# Altium footprint library Loggerhead.PcbLib: 175 footprints (part 3 of 11)
Each footprint in its own frame and in the unit in brackets; x right, y up, seen from the top. Pads: shape width x height; smd on the part's side, far side on the other; paste and mask are expansions set on the pad; w line width, h text height; cw(c..) or ccw(c..) is an arc to the next point about the centre after c.
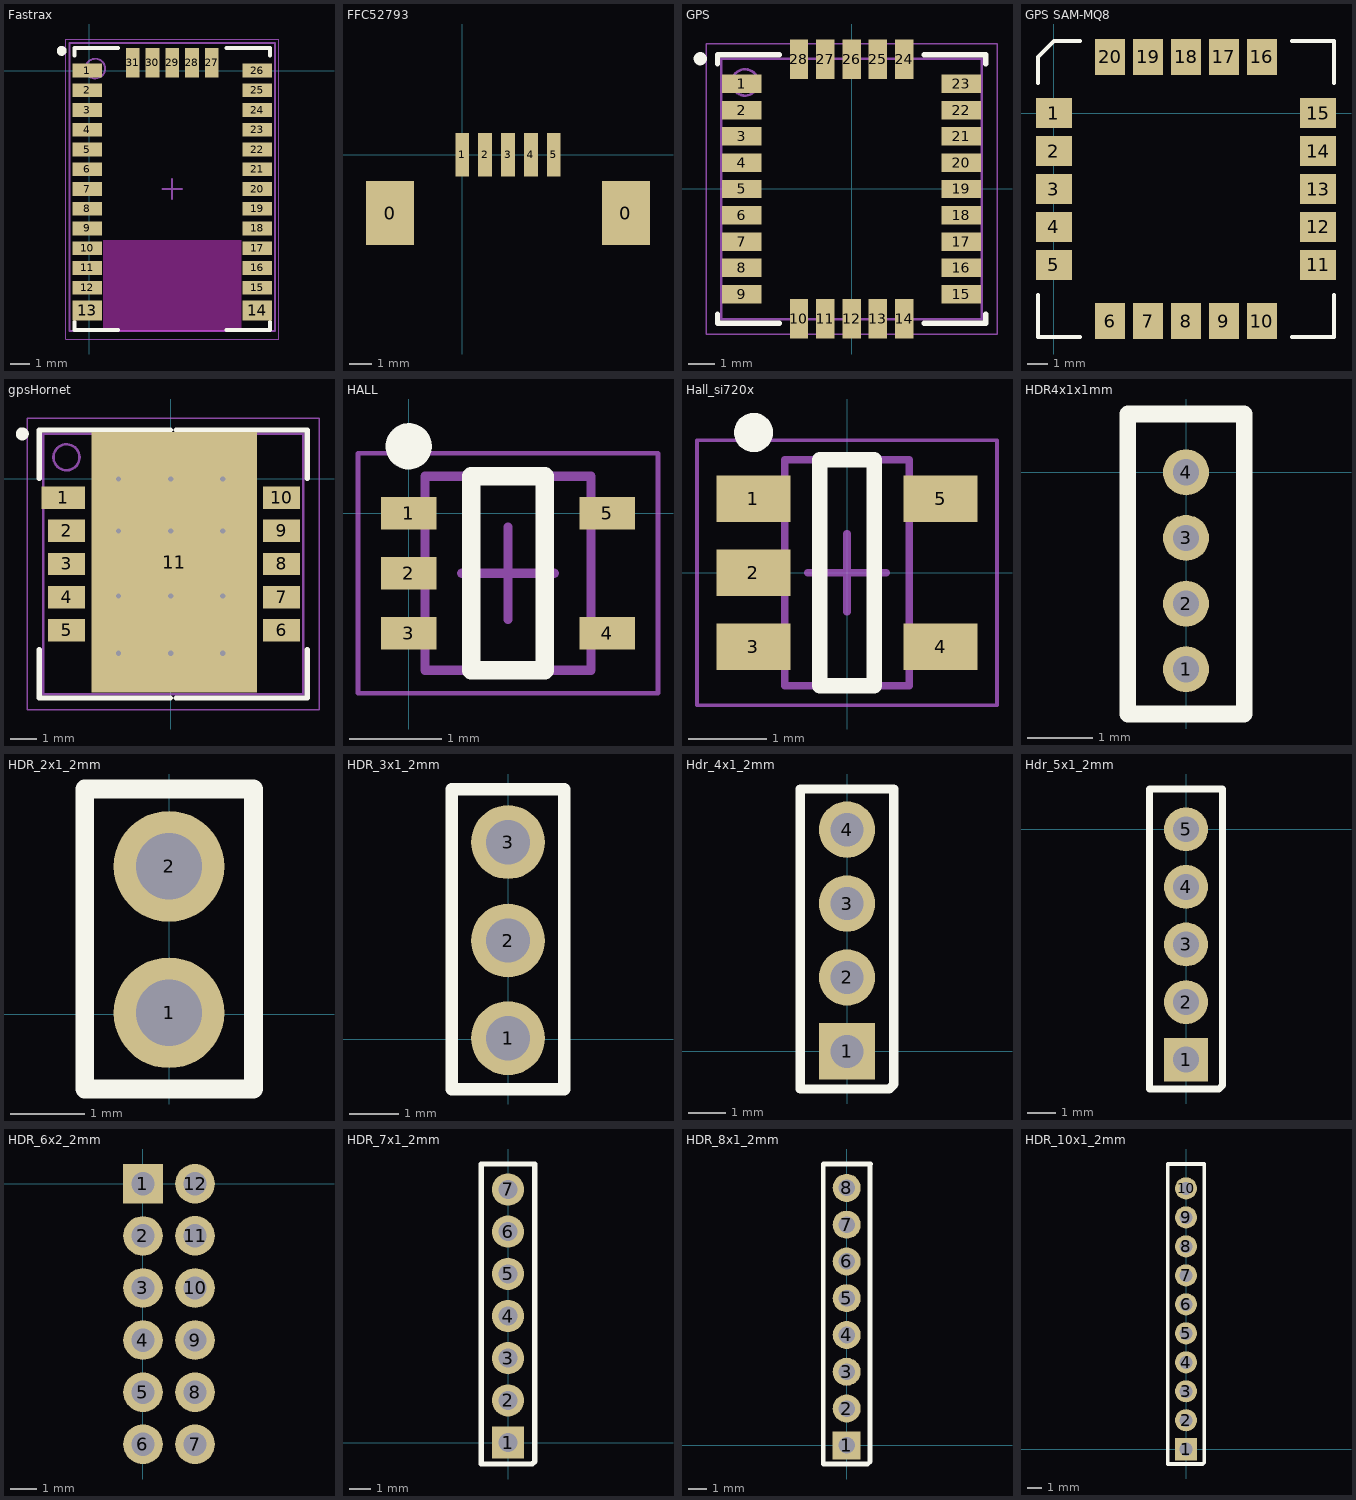
[diagram p2: the footprints below, top view; thin cyan lines are the x and y axes]

## Fastrax [mm] "Fastrax GPS Module UC530"
height 1.71
pads (31):
  rect 1.5x0.7 smd: 1(-0.1,0) 2(-0.1,-1) 3(-0.1,-2) 4(-0.1,-3) 5(-0.1,-4) 6(-0.1,-5) 7(-0.1,-6) 8(-0.1,-7) 9(-0.1,-8) 10(-0.1,-9) 11(-0.1,-10) 12(-0.1,-11) 15(8.5,-11) 16(8.5,-10) 17(8.5,-9) 18(8.5,-8) 19(8.5,-7) 20(8.5,-6) 21(8.5,-5) 22(8.5,-4) 23(8.5,-3) 24(8.5,-2) 25(8.5,-1) 26(8.5,0)
  rect 1.5x1 smd: 13(-0.1,-12.15) 14(8.5,-12.15)
  rect 0.7x1.5 smd: 27(6.2,0.4) 28(5.2,0.4) 29(4.2,0.4) 30(3.2,0.4) 31(2.2,0.4)
Top Overlay:
  circle w0.25: c-1.4,1 r0.125
  lines w0.2: -0.75,-12.75 -0.75,-13.15 1.45,-13.15 ; -0.75,0.75 -0.75,1.15 1.45,1.15 ; 6.95,-13.15 9.15,-13.15 9.15,-12.75 ; 6.95,1.15 9.15,1.15 9.15,0.75
Mechanical 13:
  circle w0.1: c0.3,0.1 r0.5
  lines w0.1: -1,-13.2 9.4,-13.2 9.4,1.4 -1,1.4 -1,-13.2
Mechanical 15:
  lines w0.05: -1.2,-13.6 9.6,-13.6 9.6,1.6 -1.2,1.6 -1.2,-13.6
  lines w0.1: 3.7,-6 4.7,-6 ; 4.2,-6.5 4.2,-5.5
Multi-Layer keep-out:
  region: 0.7,-8.6 7.7,-8.6 7.7,-13.2 0.7,-13.2
3D body: height 1.71, standoff 0.01, extent -0.95,-13.2 9.349,1.4

## FFC52793 [mm] "Molex 5 pin FFC"
pads (7):
  rect 2.1x2.8 smd: 0(-3.15,-2.55) 0(7.15,-2.55)
  rect 0.6x1.9 smd: 1(0,0) 2(1,0) 3(2,0) 4(3,0) 5(4,0)
3D body "527930570.stp": height 3.1, standoff 0, extent -3.6,-6.2 7.7,0.6

## GPS [mm] "QFN, 28-Leads, Body 9.75x9.75mm, Pitch 1.00mm, Thermal Pad 8.70x4.70mm, IPC Medium Density"
height 1.85
pads (28):
  rect 1.5x0.7 smd: 1(-4.175,4) 2(-4.175,3) 3(-4.175,2) 4(-4.175,1) 5(-4.175,0) 6(-4.175,-1) 7(-4.175,-2) 8(-4.175,-3) 9(-4.175,-4) 15(4.175,-4) 16(4.175,-3) 17(4.175,-2) 18(4.175,-1) 19(4.175,0) 20(4.175,1) 21(4.175,2) 22(4.175,3) 23(4.175,4)
  rect 0.7x1.5 smd: 10(-2,-4.925) 11(-1,-4.925) 12(0,-4.925) 13(1,-4.925) 14(2,-4.925) 24(2,4.925) 25(1,4.925) 26(0,4.925) 27(-1,4.925) 28(-2,4.925)
Top Overlay:
  circle w0.25: c-5.75,4.95 r0.125
  lines w0.2: -5.1,-4.75 -5.1,-5.1 -2.75,-5.1 ; -5.1,4.75 -5.1,5.1 -2.75,5.1 ; 2.75,-5.1 5.1,-5.1 5.1,-4.75 ; 2.75,5.1 5.1,5.1 5.1,4.75
Mechanical 13:
  circle w0.1: c-4.05,4.05 r0.5
  lines w0.1: -4.95,-4.95 4.95,-4.95 4.95,4.95 -4.95,4.95 -4.95,-4.95
Mechanical 15:
  lines w0.05: -5.525,-5.525 5.525,-5.525 5.525,5.525 -5.525,5.525 -5.525,-5.525
3D body: height 1.85, standoff 0.01, extent -4.95,-4.95 4.95,4.95

## GPS SAM-MQ8 [mm]
pads (20):
  rect 1.8x1.5 smd paste-0.25: 1(0,0) 2(0,-1.9) 3(0,-3.8) 4(0,-5.7) 5(0,-7.6) 11(13.2,-7.6) 12(13.2,-5.7) 13(13.2,-3.8) 14(13.2,-1.9) 15(13.2,0)
  rect 1.5x1.8 smd paste-0.25: 6(2.8,-10.4) 7(4.7,-10.4) 8(6.6,-10.4) 9(8.5,-10.4) 10(10.4,-10.4) 16(10.4,2.8) 17(8.5,2.8) 18(6.6,2.8) 19(4.7,2.8) 20(2.8,2.8)
Top Overlay:
  lines w0.2: -0.8,-9.1 -0.8,-11.2 1.3,-11.2 ; -0.8,1.5 -0.8,2.8 0,3.6 1.3,3.6 ; 11.9,-11.2 14,-11.2 14,-9.1 ; 11.9,3.6 14,3.6 14,1.5

## gpsHornet [mm]
height 5.9
pads (11):
  rect 1.676x0.864 smd: 1(-4.127,-0.73)
  rect 1.422x0.864 smd: 2(-4,-2) 3(-4,-3.27) 4(-4,-4.54) 5(-4,-5.81) 6(4.259,-5.81) 7(4.259,-4.54) 8(4.259,-3.27) 9(4.259,-2) 10(4.259,-0.73)
  rect 6.35x10.01 smd: 11(0.14,-3.2)
via -2,-6.7 diameter 0.5 hole 0.2
via 0,-6.7 diameter 0.5 hole 0.2
via 2,-6.7 diameter 0.5 hole 0.2
via -2,-4.5 diameter 0.5 hole 0.2
via 0,-4.5 diameter 0.5 hole 0.2
via 2,-4.5 diameter 0.5 hole 0.2
via -2,-2 diameter 0.5 hole 0.2
via 0,-2 diameter 0.5 hole 0.2
via 2,-2 diameter 0.5 hole 0.2
via 2,0 diameter 0.5 hole 0.2
via 0,0 diameter 0.5 hole 0.2
via -2,0 diameter 0.5 hole 0.2
Top Overlay:
  circle w0.25: c-5.702,1.73 r0.125
  lines w0.2: -5.052,-6.56 -5.052,-8.42 -0.017,-8.42 ; -5.052,0.02 -5.052,1.88 -0.017,1.88 ; 0.213,-8.42 5.248,-8.42 5.248,-6.56 ; 0.213,1.88 5.248,1.88 5.248,0.02
Mechanical 13:
  circle w0.1: c-4.002,0.83 r0.5
  lines w0.1: -4.902,-8.27 -4.902,1.73 5.098,1.73 5.098,-8.27 -4.902,-8.27
Mechanical 15:
  lines w0.05: -5.502,-8.87 -5.502,2.33 5.698,2.33 5.698,-8.87 -5.502,-8.87
3D body: height 5.9, standoff 0, extent -4.902,-8.27 5.098,1.73

## HALL [mm] "SOT23, 5-Leads, Body 2.00x2.10mm, Pitch 0.65mm, IPC Medium Density"
height 0.7
pads (5):
  rect 0.6x0.35 smd: 1(0,0) 2(0,-0.65) 3(0,-1.3) 4(2.15,-1.3) 5(2.15,0)
Top Overlay:
  circle w0.25: c0,0.725 r0.125
  lines w0.2: 0.675,-1.7 0.675,0.4 1.475,0.4 1.475,-1.7 0.675,-1.7
Mechanical 13:
  lines w0.1: 0.175,-1.7 1.975,-1.7 1.975,0.4 0.175,0.4 0.175,-1.7
Mechanical 15:
  lines w0.05: -0.55,-1.95 2.7,-1.95 2.7,0.65 -0.55,0.65 -0.55,-1.95
  lines w0.1: 0.575,-0.65 1.575,-0.65 ; 1.075,-1.15 1.075,-0.15
3D body: height 0.7, standoff 0.13, extent 0.175,-1.7 1.975,0.4

## Hall_si720x [mm] "SOT23, 5-Leads, Body 2.90x2.75mm, Pitch 0.95mm, IPC Medium Density"
height 1.25
pads (5):
  rect 0.95x0.6 smd: 1(-1.2,0.95) 2(-1.2,0) 3(-1.2,-0.95) 4(1.2,-0.95) 5(1.2,0.95)
Top Overlay:
  circle w0.25: c-1.2,1.8 r0.125
  lines w0.2: -0.35,-1.45 -0.35,1.45 0.35,1.45 0.35,-1.45 -0.35,-1.45
Mechanical 13:
  lines w0.1: -0.8,-1.45 0.8,-1.45 0.8,1.45 -0.8,1.45 -0.8,-1.45
Mechanical 15:
  lines w0.05: -1.925,-1.7 1.925,-1.7 1.925,1.7 -1.925,1.7 -1.925,-1.7
  lines w0.1: -0.5,0 0.5,0 ; 0,-0.5 0,0.5
3D body: height 1.25, standoff 0.1, extent -0.8,-1.45 0.8,1.45

## HDR4x1x1mm [mm] "Header with 1 mm centers"
pads (4):
  round 0.7 hole 0.4: 1(0,-3) 2(0,-2) 3(0,-1) 4(0,0)
Top Overlay:
  lines w0.254: -0.889,-3.683 -0.889,0.889 0.889,0.889 0.889,-3.683 -0.889,-3.683

## HDR_2x1_2mm [mm]
pads (2):
  round 1.5 hole 0.9: 1(0,0.016) 2(0,2)
Top Overlay:
  lines w0.254: -1.143,-1.016 -1.143,3.048 1.143,3.048 1.143,-1.016 -1.143,-1.016

## HDR_3x1_2mm [mm]
pads (3):
  round 1.5 hole 0.9: 1(0,0.016) 2(0,2) 3(0,4)
Top Overlay:
  lines w0.254: -1.143,-1.016 -1.143,5.08 1.143,5.08 1.143,-1.016 -1.143,-1.016

## Hdr_4x1_2mm [mil]
pads (4):
  rect 60x60 hole 35.43: 1(0,0)
  round 60 hole 35.43: 2(0,78.74) 3(0,157.48) 4(0,236.22)
Top Overlay:
  lines w10: -50,-40.04 45,-40.04 50,-35.04 50,279.53 -50,279.53 -50,-40.04

## Hdr_5x1_2mm [mil]
pads (5):
  rect 60x60 hole 35.43: 1(0,-314.96)
  round 60 hole 35.43: 2(0,-236.22) 3(0,-157.48) 4(0,-78.74) 5(0,0)
Top Overlay:
  lines w10: -50,-355 45,-355 50,-350 50,55 -50,55 -50,-355

## HDR_6x2_2mm [mil]
pads (12):
  rect 60x60 hole 35.43: 1(0,0)
  round 60 hole 35.43: 2(0,-78.78) 3(0,-157.52) 4(0,-236.26) 5(0,-315) 6(0,-393.7) 7(78.74,-393.7) 8(78.74,-314.96) 9(78.74,-236.22) 10(78.74,-157.48) 11(78.74,-78.74) 12(78.74,0)

## HDR_7x1_2mm [mil]
pads (7):
  rect 60x60 hole 35.43: 1(0,0.04)
  round 60 hole 35.43: 2(0,78.78) 3(0,157.52) 4(0,236.26) 5(0,315) 6(0,393.7) 7(0,472.44)
Top Overlay:
  lines w10: -50,-40 45,-40 50,-35 50,520 -50,520 -50,-40

## HDR_8x1_2mm [mil]
pads (8):
  rect 60x60 hole 35.43: 1(0,0.04)
  round 60 hole 35.43: 2(0,78.78) 3(0,157.52) 4(0,236.26) 5(0,315) 6(0,393.7) 7(0,472.44) 8(0,551.18)
Top Overlay:
  lines w10: 50,602.36 50,-35 45,-40 -50,-40 -50,602.36 51.18,602.36

## HDR_10x1_2mm [mil]
pads (10):
  rect 60x60 hole 35.43: 1(0,0.04)
  round 60 hole 35.43: 2(0,78.78) 3(0,157.52) 4(0,236.26) 5(0,315) 6(0,393.7) 7(0,472.44) 8(0,551.18) 9(0,629.92) 10(0,708.66)
Top Overlay:
  lines w10: -50,-40 45,-40 50,-35 50,775 -50,775 -50,-40